# EAGLE library part MAX4995AAUT+T (library circuit_tree)
IC
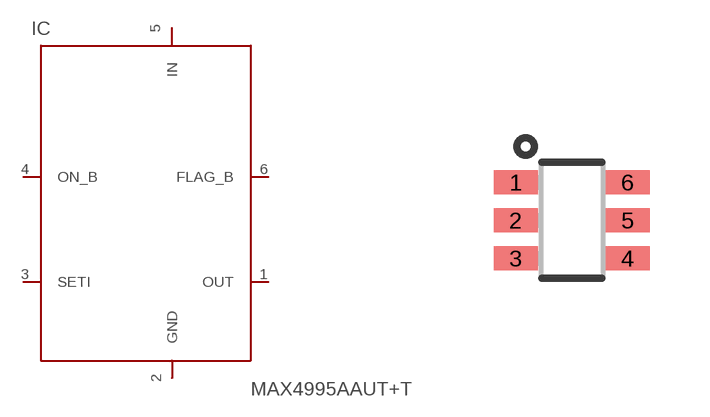
[diagram p8: symbol with the pads of SOT-23-6; footprint SOT-23-6]

Designator prefix IC

## MAX4995AAUT+T  [SOT-23-6]
1  OUT  pas
2  GND  pas
3  SETI  pas
4  ON_B  pas
5  IN  pas
6  FLAG_B  pas

## Footprint SOT-23-6 (pad centres in mm)
smd 1.1 x 0.6: 1 -1.4,0.95; 2 -1.4,0; 3 -1.4,-0.95; 4 1.4,-0.95; 5 1.4,0; 6 1.4,0.95